# EAGLE library part ENC28J60 (library aurai)
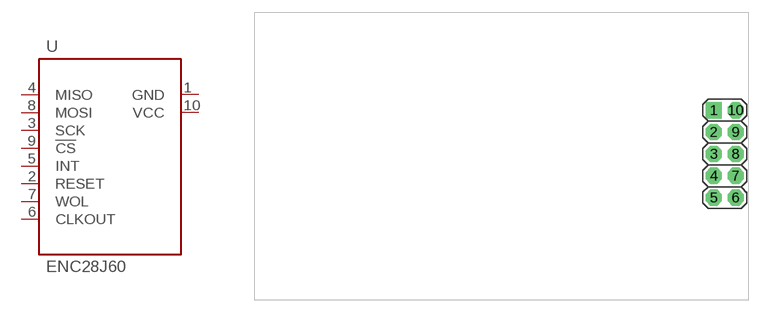
[diagram p3: symbol with the pads of ENC28J60_HEADER; footprint ENC28J60_HEADER]

Designator prefix U

## ENC28J60  [ENC28J60_HEADER]
1  GND  pwr
2  RESET
3  SCK  in
4  MISO  out
5  INT  out
6  CLKOUT  out
7  WOL
8  MOSI  in
9  !CS  in
10  VCC  pwr

## Footprint ENC28J60_HEADER (pad centres in mm)
Header for the cheap ENC28J60 breakout boards from eBay
drill 1.016 pad 1.88 square: 1 -1.21,5.03
drill 1.016 pad 1.88 octagon: 2 -1.21,2.49; 3 -1.21,-0.05; 4 -1.21,-2.59; 5 -1.21,-5.13; 6 1.33,-5.13; 7 1.33,-2.59; 8 1.33,-0.05; 9 1.33,2.49; 10 1.33,5.03